# Altium schematic symbol library 2225B_VumetreFrequenciel.SchLib: 12 symbols
Pins are listed as number, name and electrical type; pins without a type are passive.

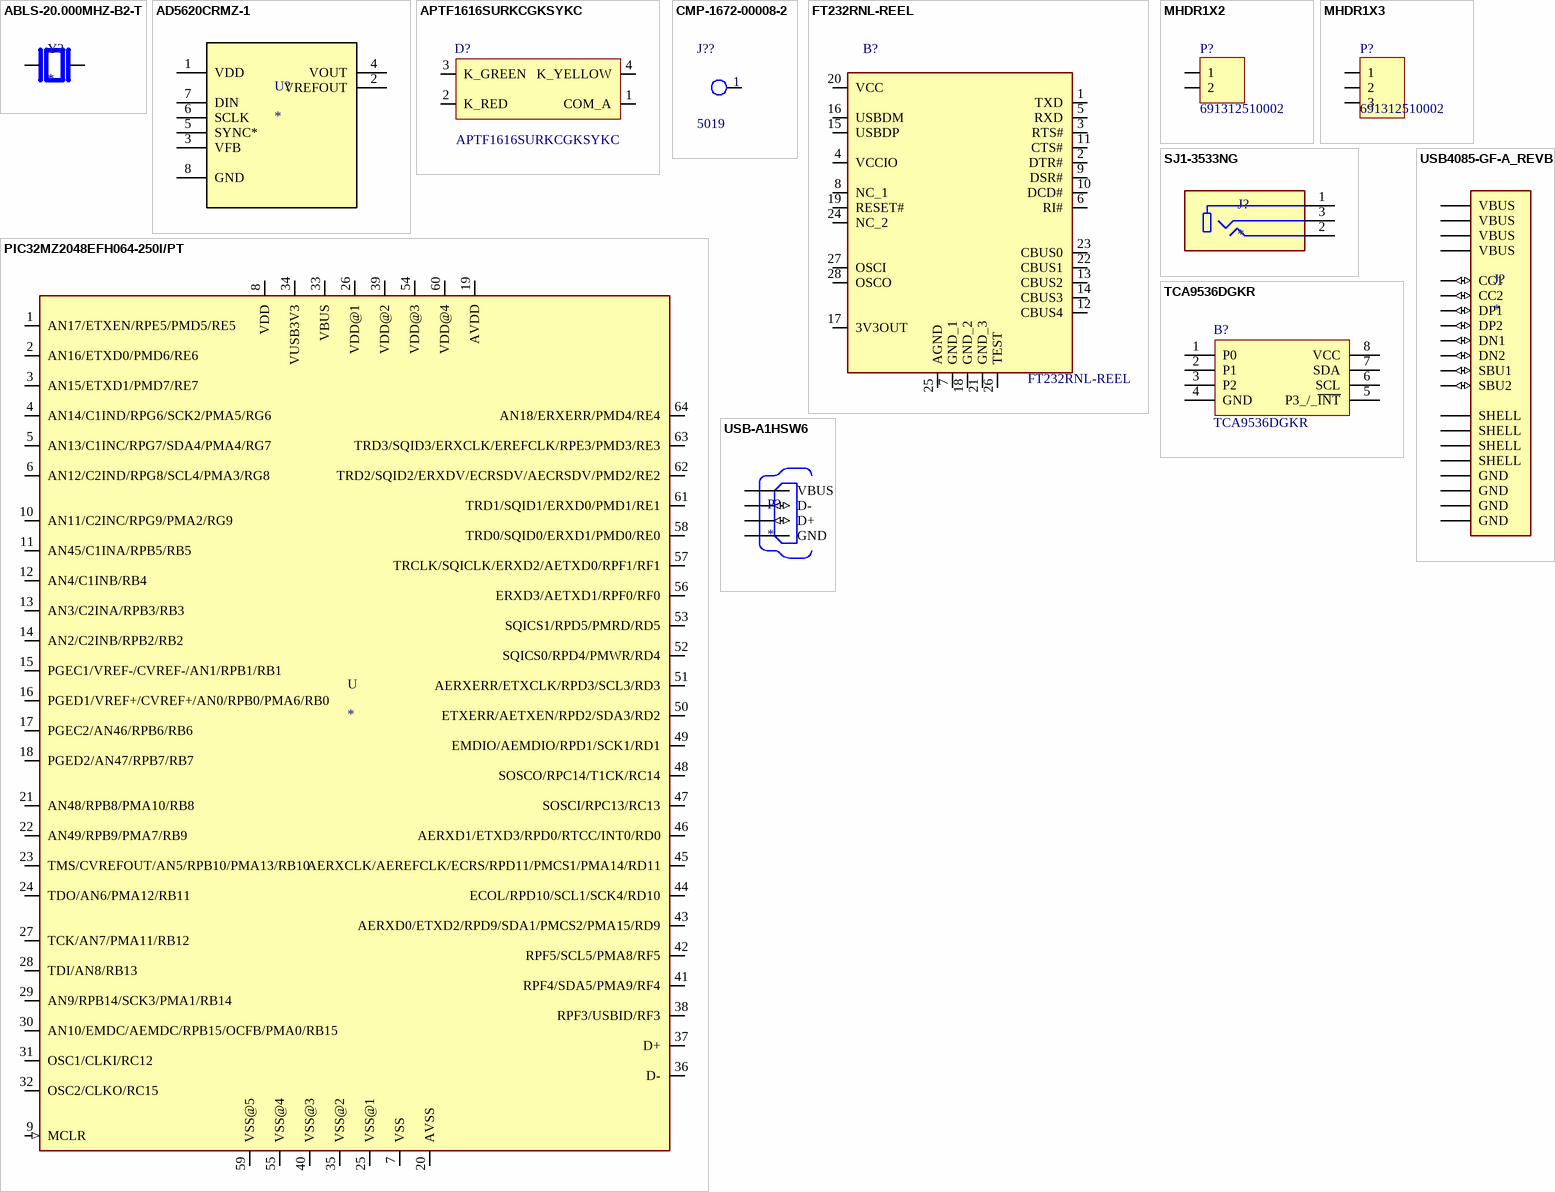
[diagram p0: symbols ABLS-20.000MHZ-B2-T to USB-A1HSW6]

## ABLS-20.000MHZ-B2-T
designator Y?
HC/49US (AT49) SMD LOW PROFILE CRYSTAL; MF: Abracon LLC; MP: ABLS-20.000MHZ-B2-T; Availability: In Stock; SnapEDA_Link: https://www.snapeda.com/parts/ABLS-20.000MHZ-B2-T/Abracon+LLC/view-part/?ref=snap; Check_prices: https://www.snapeda.com/parts/ABLS-20.000MHZ-B2-T/Abracon+LLC/view-part/?ref=eda; Price: None; Package: HC-49/US Abracon LLC; Purchase-URL: https://pricing.snapeda.com/search/part/ABLS-20.000MHZ-B2-T/?ref=eda; Value: *
footprint XTAL_ABLS-20.000MHZ-B2-T
pins: 1, 2

## AD5620CRMZ-1
designator U?
Single, 12-Bit nanoDACÂ® with 5 ppm/Â°C On-Chip Reference in SOT-23; MF: Analog Devices; MP: AD5620CRMZ-1; Value: *; Price: None; Package: MSOP-8 Analog Devices; Purchase-URL: https://pricing.snapeda.com/search/part/AD5620CRMZ-1/?ref=eda; SnapEDA_Link: https://www.snapeda.com/parts/AD5620CRMZ-1/Analog+Devices/view-part/?ref=snap; Check_prices: https://www.snapeda.com/parts/AD5620CRMZ-1/Analog+Devices/view-part/?ref=eda; Availability: In Stock
footprint SOP65P490X110-8N
pins: 1 VDD (power), 2 VREFOUT, 3 VFB, 4 VOUT, 5 SYNC*, 6 SCLK, 7 DIN, 8 GND

## APTF1616SURKCGKSYKC
designator D?
Green, Red, Yellow 570nm Green, 630nm Red, 590nm Yellow LED Indication - Discrete 2.1V Green, 1.95V Red, 2V Yellow 4-SMD, No Lead; Manufacturer_Name: Kingbright; Geometry.Height: 0.9mm; Manufacturer_Part_Number: APTF1616SURKCGKSYKC; Mouser Part Number: 604-APTF1616KCGKSYKC; Mouser Price/Stock: https://www.mouser.co.uk/ProductDetail/Kingbright/APTF1616SURKCGKSYKC?qs=FESYatJ8odK7UleJtP4p0g%3D%3D; Arrow Part Number: APTF1616SURKCGKSYKC; Arrow Price/Stock: https://www.arrow.com/en/products/aptf1616surkcgksykc/kingbright?region=nac; Datasheet Link: https://www.kingbrightusa.com/images/catalog/SPEC/APTF1616SURKCGKSYKC.pdf
footprint APTF1616SURKCGKSYKC
pins: 1 COM_A, 2 K_RED, 3 K_GREEN, 4 K_YELLOW

## CMP-1672-00008-2
designator J??, comment 5019
NexarPartId: 22052288; Manufacturer: Keystone Electronics; Number of Contacts: 1; Contact Material: Bronze, Silver; Number of Pins: 1; Lead Free: Lead Free; Packaging: Tape and Reel; Mount: Surface Mount; Height: 2.286mm; Contact Plating: Silver; Material: Bronze; Termination: SMD/SMT; REACH SVHC: No SVHC; RoHS: Compliant; Manufacturer Part Number: 5019
footprint FP-5019-MFG (Test Point, Mini, SMT, Phos Bronze/Silver, 1000pc Tape & Reel)
pins: 1

## FT232RNL-REEL
designator B?
UART Interface IC USB Full Speed to Serial UART IC, Includes Oscillator and EEPROM, SSOP-28; Manufacturer_Name: FTDI Chip; Geometry.Height: 2mm; Manufacturer_Part_Number: FT232RNL-REEL; Mouser Part Number: 895-FT232RNL-REEL; Mouser Price/Stock: https://www.mouser.co.uk/ProductDetail/FTDI/FT232RNL-REEL?qs=By6Nw2ByBD3LSfXryh9qRQ%3D%3D; Arrow Part Number: FT232RNL-REEL; Arrow Price/Stock: https://www.arrow.com/en/products/ft232rnl-reel/ftdi-chip?utm_currency=USD&region=europe; Datasheet Link: https://ftdichip.com/wp-content/uploads/2022/12/DS_FT232RN.pdf
footprint SOP65P780X200-28N
pins: 1 TXD, 2 DTR#, 3 RTS#, 4 VCCIO, 5 RXD, 6 RI#, 7 GND_1, 8 NC_1, 9 DSR#, 10 DCD#, 11 CTS#, 12 CBUS4, 13 CBUS2, 14 CBUS3, 15 USBDP, 16 USBDM, 17 3V3OUT, 18 GND_2, 19 RESET#, 20 VCC, 21 GND_3, 22 CBUS1, 23 CBUS0, 24 NC_2, 25 AGND, 26 TEST, 27 OSCI, 28 OSCO

## MHDR1X2
designator P?, comment 691312510002
Header, 2-Pin; LatestRevisionDate: 17-Jul-2002; LatestRevisionNote: Re-released for DXP Platform.; Publisher: Altium Limited
footprint MHDR1X2 (Connector; Header; 2 Position)
signal-integrity model Connector
pins: 1, 2

## MHDR1X3
designator P?, comment 691312510002
Header, 3-Pin; LatestRevisionDate: 17-Jul-2002; LatestRevisionNote: Re-released for DXP Platform.; Publisher: Altium Limited
footprint MHDR1X2 (Connector; Header; 2 Position)
signal-integrity model Connector
pins: 1, 2, 3

## PIC32MZ2048EFH064-250I/PT
designator U
MIPS32Â® M-Class PICÂ® 32MZ Microcontroller IC 32-Bit 250MHz 2MB _2M x 8_ FLASH 64-TQFP _10x10_; MP: PIC32MZ2048EFH064-250I/PT; MF: Microchip; SnapEDA_Link: https://www.snapeda.com/parts/PIC32MZ2048EFH064-250I/PT/Microchip/view-part/1145914/?ref=snap; Digi-Key_Purchase_URL: https://www.digikey.com/product-detail/en/microchip-technology/PIC32MZ2048EFH064-250I-PT/PIC32MZ2048EFH064-250I-PT-ND/6152256?utm_source=snapeda&utm_medium=aggregator&utm_campaign=symbol; Value: *; Package: TQFP-64 Microchip; Digi-Key_Part_Number: PIC32MZ2048EFH064-250I/PT-ND
footprint QFP50P1200X1200X120-64N
pins: 1 AN17/ETXEN/RPE5/PMD5/RE5, 2 AN16/ETXD0/PMD6/RE6, 3 AN15/ETXD1/PMD7/RE7, 4 AN14/C1IND/RPG6/SCK2/PMA5/RG6, 5 AN13/C1INC/RPG7/SDA4/PMA4/RG7, 6 AN12/C2IND/RPG8/SCL4/PMA3/RG8, 7 VSS (power), 8 VDD (power), 9 MCLR (in), 10 AN11/C2INC/RPG9/PMA2/RG9, 11 AN45/C1INA/RPB5/RB5, 12 AN4/C1INB/RB4, 13 AN3/C2INA/RPB3/RB3, 14 AN2/C2INB/RPB2/RB2, 15 PGEC1/VREF-/CVREF-/AN1/RPB1/RB1, 16 PGED1/VREF+/CVREF+/AN0/RPB0/PMA6/RB0, 17 PGEC2/AN46/RPB6/RB6, 18 PGED2/AN47/RPB7/RB7, 19 AVDD (power), 20 AVSS (power), 21 AN48/RPB8/PMA10/RB8, 22 AN49/RPB9/PMA7/RB9, 23 TMS/CVREFOUT/AN5/RPB10/PMA13/RB10, 24 TDO/AN6/PMA12/RB11, 25 VSS@1 (power), 26 VDD@1 (power), 27 TCK/AN7/PMA11/RB12, 28 TDI/AN8/RB13, 29 AN9/RPB14/SCK3/PMA1/RB14, 30 AN10/EMDC/AEMDC/RPB15/OCFB/PMA0/RB15, 31 OSC1/CLKI/RC12, 32 OSC2/CLKO/RC15, 33 VBUS (power), 34 VUSB3V3 (power), 35 VSS@2 (power), 36 D-, 37 D+, 38 RPF3/USBID/RF3, 39 VDD@2 (power), 40 VSS@3 (power), 41 RPF4/SDA5/PMA9/RF4, 42 RPF5/SCL5/PMA8/RF5, 43 AERXD0/ETXD2/RPD9/SDA1/PMCS2/PMA15/RD9, 44 ECOL/RPD10/SCL1/SCK4/RD10, 45 AERXCLK/AEREFCLK/ECRS/RPD11/PMCS1/PMA14/RD11, 46 AERXD1/ETXD3/RPD0/RTCC/INT0/RD0, 47 SOSCI/RPC13/RC13, 48 SOSCO/RPC14/T1CK/RC14, 49 EMDIO/AEMDIO/RPD1/SCK1/RD1, 50 ETXERR/AETXEN/RPD2/SDA3/RD2, 51 AERXERR/ETXCLK/RPD3/SCL3/RD3, 52 SQICS0/RPD4/PMWR/RD4, 53 SQICS1/RPD5/PMRD/RD5, 54 VDD@3 (power), 55 VSS@4 (power), 56 ERXD3/AETXD1/RPF0/RF0, 57 TRCLK/SQICLK/ERXD2/AETXD0/RPF1/RF1, 58 TRD0/SQID0/ERXD1/PMD0/RE0, 59 VSS@5 (power), 60 VDD@4 (power), 61 TRD1/SQID1/ERXD0/PMD1/RE1, 62 TRD2/SQID2/ERXDV/ECRSDV/AECRSDV/PMD2/RE2, 63 TRD3/SQID3/ERXCLK/EREFCLK/RPE3/PMD3/RE3, 64 AN18/ERXERR/PMD4/RE4

## SJ1-3533NG
designator J?
3.5 mm Right-Angle Stereo Jack, 3 Pin PCB Mount, Isolated Ground; MP: SJ1-3533NG; MF: {'manufacturer': u'CUI'}; Price: None; Availability: Unavailable; Package: None; Value: *
footprint CUI_SJ1-3533NG
pins: 1, 2, 3

## TCA9536DGKR
designator B?
Manufacturer_Name: Texas Instruments; Geometry.Height: 1.1mm; Manufacturer_Part_Number: TCA9536DGKR; Mouser Part Number: 595-TCA9536DGKR; Mouser Price/Stock: https://www.mouser.co.uk/ProductDetail/Texas-Instruments/TCA9536DGKR?qs=doiCPypUmgHJyc0NMelqCA%3D%3D; Arrow Part Number: TCA9536DGKR; Arrow Price/Stock: https://www.arrow.com/en/products/tca9536dgkr/texas-instruments?region=nac; Datasheet Link: https://www.ti.com/lit/ds/symlink/tca9536.pdf?ts=1641403369587&ref_url=https%253A%252F%252Fwww.ti.com%252Fproduct%252FTCA9536
footprint SOP65P490X110-8N
pins: 1 P0, 2 P1, 3 P2, 4 GND, 5 P3_/_~{INT}, 6 SCL, 7 SDA, 8 VCC

## USB4085-GF-A_REVB
designator J?
USB-C (USB TYPE-C) USB 2.0 æ’åº§è¿žæŽ¥å™¨ 24 (16+8 Dummy) ä½é€šå­”ã€ç›´è§’ã€ä½Žæˆæœ¬ã€3.46mm å¤–å½¢ã€16 é’ˆã€æ°´å¹³ã€é¡¶éƒ¨å®‰è£…; MF: Global Connector Technology; MP: USB4085-GF-A; SnapEDA_Link: https://www.snapeda.com/parts/USB4085-GF-A/Global+Connector+Technology/view-part/?ref=snap; Package: None; Value: *; Check_prices: https://www.snapeda.com/parts/USB4085-GF-A/Global+Connector+Technology/view-part/?ref=eda
footprint GCT_USB4085-GF-A_REVB
pins: A1 GND (power), A4 VBUS (power), A5 CC1 (io), A6 DP1 (io), A7 DN1 (io), A8 SBU1 (io), A9 VBUS (power), A12 GND (power), B1 GND (power), B4 VBUS (power), B5 CC2 (io), B6 DP2 (io), B7 DN2 (io), B8 SBU2 (io), B9 VBUS (power), B12 GND (power), S1 SHELL, S2 SHELL, S3 SHELL, S4 SHELL

## USB-A1HSW6
designator P?
USB-A (USB TYPE-A) - Receptacle Connector 4 Position Through Hole, Right Angle; MF: On Shore; MP: USB-A1HSW6; Value: *; SnapEDA_Link: https://www.snapeda.com/parts/USB-A1HSW6/On+Shore+Technology+Inc./view-part/?ref=snap; Purchase-URL: https://pricing.snapeda.com/search/part/USB-A1HSW6/?ref=eda; Availability: In Stock; Price: None; Package: None; Check_prices: https://www.snapeda.com/parts/USB-A1HSW6/On+Shore+Technology+Inc./view-part/?ref=eda
footprint OST_USB-A1HSW6
pins: 1 VBUS (power), 2 D- (io), 3 D+ (io), 4 GND (power)